# EAGLE library part MCP2551 (library microchip_mcp25xxx)
High Speed CAN tranceiver
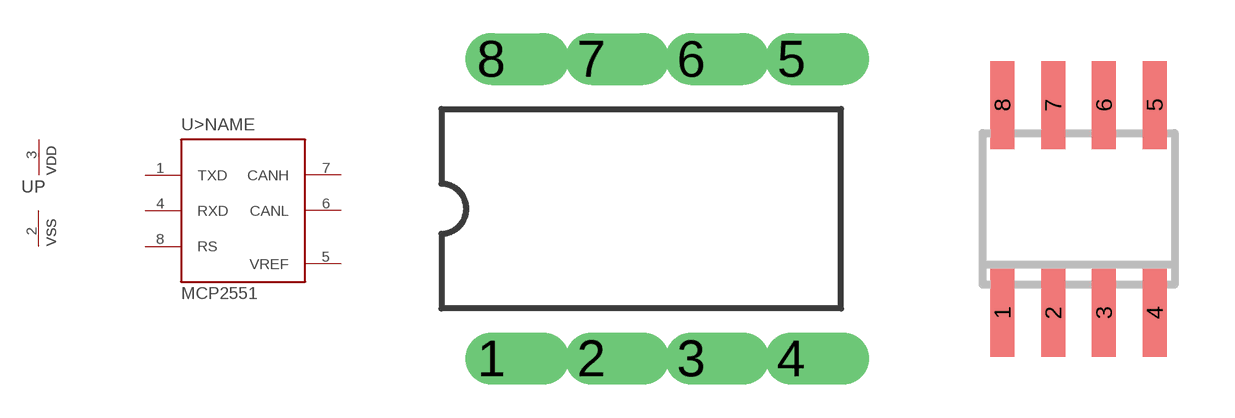
[diagram p5: symbol with the pads of DIL8; footprints DIL8, SO-08]

Designator prefix U; gates >NAME=MCP2551 P=PWRN

## MCP2551P  [DIL8]
1  >NAME:TXD  in
2  P:VSS  pwr
3  P:VDD  pwr
4  >NAME:RXD  out
5  >NAME:VREF  pwr
6  >NAME:CANL
7  >NAME:CANH
8  >NAME:RS  in

## MCP2551SN  [SO-08]
Pads as for DIL8

## Footprint DIL8 (pad centres in mm)
Dual In Line package type P
drill 0.813 offset: 1 -3.81,-3.81; 2 -1.27,-3.81; 3 1.27,-3.81; 4 3.81,-3.81; 5 3.81,3.81; 6 1.27,3.81; 7 -1.27,3.81; 8 -3.81,3.81

## Footprint SO-08 (pad centres in mm)
Small Outline Narrow Plastic Gull Wing 150-mil body, package type SN
smd 0.6 x 2.2: 1 -1.905,-2.6; 2 -0.635,-2.6; 3 0.635,-2.6; 4 1.905,-2.6; 5 1.905,2.6; 6 0.635,2.6; 7 -0.635,2.6; 8 -1.905,2.6